# Altium footprint library resistencias_smd.PCBLIB: 183 footprints (part 6 of 12)
Each footprint in its own frame and in the unit in brackets; x right, y up, seen from the top. Pads: shape width x height; smd on the part's side, far side on the other; paste and mask are expansions set on the pad; w line width, h text height; cw(c..) or ccw(c..) is an arc to the next point about the centre after c.
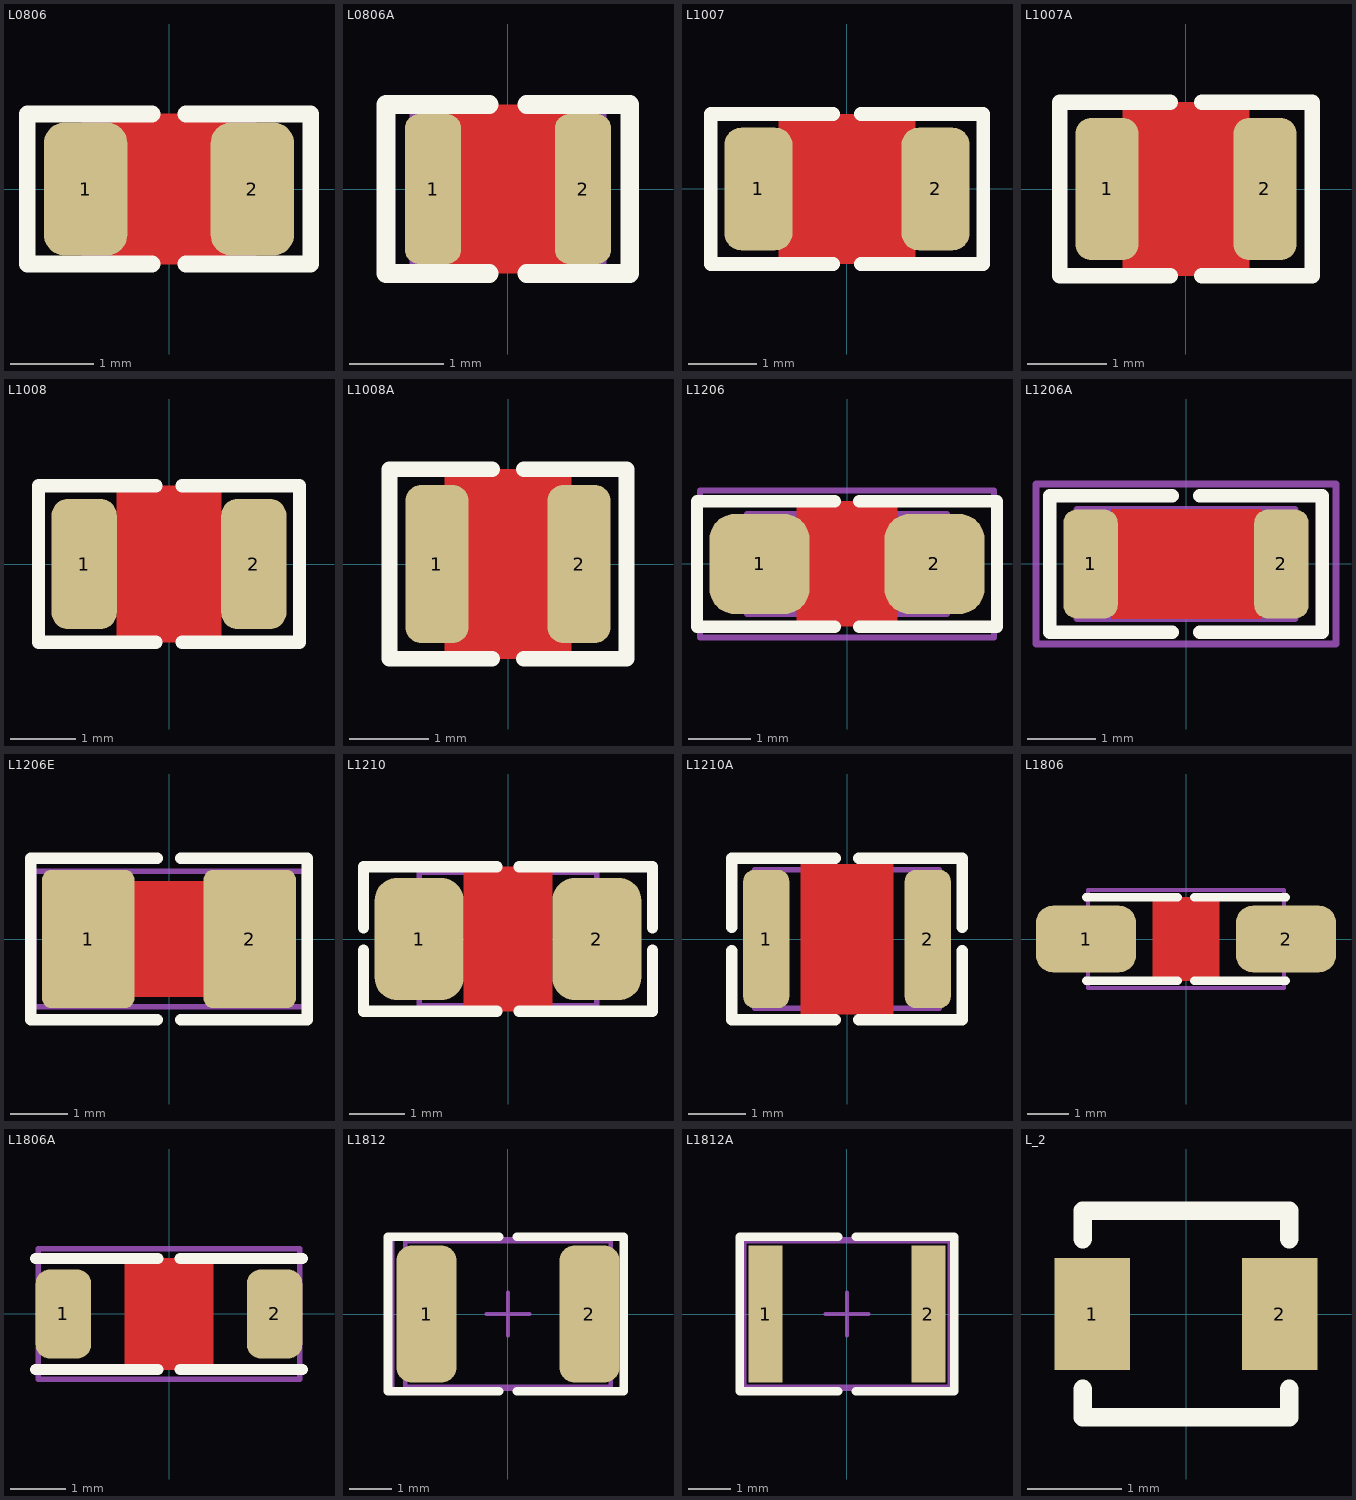
[diagram p5: the footprints below, top view; thin cyan lines are the x and y axes]

## L0806 [mm] "INDUCTOR, 2016, 0806, 2.0X1.6mm"
height 1
pads (2):
  rrect50% 1x1.6 smd mask+0.075: 1(-1,0) 2(1,0)
Top Layer:
  pour cut-out: -0.7,0.9 0.7,0.9 0.7,-0.9 -0.7,-0.9
Top Overlay:
  lines w0.2: -0.2,-0.9 -1.7,-0.9 -1.7,0.9 -0.2,0.9 ; 0.2,-0.9 1.7,-0.9 1.7,0.9 0.2,0.9
Mechanical 13:
  lines w0.1: -1,-0.8 1,-0.8 1,0.8 -1,0.8 -1,-0.8
3D body: height 0.1, standoff 0, extent 0.5,-0.8 1,0.8
3D body: height 1, standoff 0, extent 0.6,-0.8 1,0.8
3D body: height 1, standoff 0, extent -1,-0.8 -0.6,0.8
3D body: height 1, standoff 0.1, extent -0.6,-0.8 0.6,0.8
3D body: height 0.1, standoff 0, extent -1,-0.8 -0.5,0.8

## L0806A [mm] "INDUCTOR, 2016, 0806, 2.0X1.6mm"
height 1
pads (2):
  rrect50% 0.6x1.6 smd mask+0.075: 1(-0.8,0) 2(0.8,0)
Top Layer:
  pour cut-out: -0.7,0.9 0.7,0.9 0.7,-0.9 -0.7,-0.9
Top Overlay:
  lines w0.2: -0.2,-0.9 -1.3,-0.9 -1.3,0.9 -0.2,0.9 ; 0.2,-0.9 1.3,-0.9 1.3,0.9 0.2,0.9
Mechanical 13:
  lines w0.1: -1,-0.8 1,-0.8 1,0.8 -1,0.8 -1,-0.8
3D body: height 0.1, standoff 0, extent 0.5,-0.8 1,0.8
3D body: height 1, standoff 0, extent 0.6,-0.8 1,0.8
3D body: height 1, standoff 0, extent -1,-0.8 -0.6,0.8
3D body: height 1, standoff 0.1, extent -0.6,-0.8 0.6,0.8
3D body: height 0.1, standoff 0, extent -1,-0.8 -0.5,0.8

## L1007 [mm] "INDUCTOR, 2518 [1007], 2.5X1.8mm"
height 1.8
pads (2):
  rrect50% 1x1.8 smd mask+0.075: 1(-1.3,0) 2(1.3,0)
Top Layer:
  pour cut-out: -1,1.1 -1,-1.1 1,-1.1 1,1.1
Top Overlay:
  lines w0.2: -0.2,-1.1 -2,-1.1 -2,1.1 -0.2,1.1 ; 0.2,-1.1 2,-1.1 2,1.1 0.2,1.1
3D body: height 1.2, standoff 0, extent 1.2,-0.9 1.25,0.9
3D body: height 0.05, standoff 0, extent 0.65,-0.9 1.25,0.9
3D body: height 0.05, standoff 0, extent -1.25,-0.9 -0.65,0.9
3D body: height 1.2, standoff 0, extent -1.25,-0.9 -1.2,0.9
3D body: height 1.2, standoff 0.05, extent -1.2,-0.9 1.2,0.9

## L1007A [mm] "INDUCTOR, 2518 [1007], 2.5X1.8mm"
height 1.8
pads (2):
  rrect50% 0.8x1.8 smd mask+0.075: 1(-1,0) 2(1,0)
Top Layer:
  pour cut-out: -0.8,1.1 -0.8,-1.1 0.8,-1.1 0.8,1.1
Top Overlay:
  lines w0.2: -0.2,-1.1 -1.6,-1.1 -1.6,1.1 -0.2,1.1 ; 0.2,-1.1 1.6,-1.1 1.6,1.1 0.2,1.1
3D body: height 1.2, standoff 0.05, extent -1.2,-0.9 1.2,0.9
3D body: height 1.2, standoff 0, extent -1.25,-0.9 -1.2,0.9
3D body: height 0.05, standoff 0, extent -1.25,-0.9 -0.65,0.9
3D body: height 0.05, standoff 0, extent 0.65,-0.9 1.25,0.9
3D body: height 1.2, standoff 0, extent 1.2,-0.9 1.25,0.9

## L1008 [mm] "INDUCTOR, 2520 1008, 2.5X2.0mm"
pads (2):
  rrect50% 1x2 smd: 1(-1.3,0) 2(1.3,0)
Top Layer:
  pour cut-out: -0.8,1.2 -0.8,-1.2 0.8,-1.2 0.8,1.2
Top Overlay:
  lines w0.2: -0.2,-1.2 -2,-1.2 -2,1.2 -0.2,1.2 ; 0.2,-1.2 2,-1.2 2,1.2 0.2,1.2
3D body: height 0.05, standoff 0, extent 0.65,-1 1.25,1
3D body: height 0.05, standoff 0, extent -1.25,-1 -0.65,1
3D body: height 1.2, standoff 0, extent 1.2,-1 1.25,1
3D body: height 1.2, standoff 0, extent -1.25,-1 -1.2,1
3D body: height 1.2, standoff 0.05, extent -1.2,-1 1.2,1

## L1008A [mm] "INDUCTOR, 2520 1008, 2.5X2.0mm, for PCBA"
pads (2):
  rrect50% 0.8x2 smd: 1(-0.9,0) 2(0.9,0)
Top Layer:
  pour cut-out: -0.8,1.2 -0.8,-1.2 0.8,-1.2 0.8,1.2
Top Overlay:
  lines w0.2: -0.2,-1.2 -1.5,-1.2 -1.5,1.2 -0.2,1.2 ; 0.2,-1.2 1.5,-1.2 1.5,1.2 0.2,1.2
3D body: height 1.2, standoff 0.05, extent -1.2,-1 1.2,1
3D body: height 1.2, standoff 0, extent -1.25,-1 -1.2,1
3D body: height 1.2, standoff 0, extent 1.2,-1 1.25,1
3D body: height 0.05, standoff 0, extent -1.25,-1 -0.65,1
3D body: height 0.05, standoff 0, extent 0.65,-1 1.25,1

## L1206 [mm] "INDUCTOR, FERRITE BEAD, 1206, 3.2X1.6mm"
height 2
pads (2):
  rrect50% 1.6x1.6 smd mask+0.075: 1(-1.4,0) 2(1.4,0)
Top Layer:
  pour cut-out: -0.8,1 -0.8,-1 0.8,-1 0.8,1
Top Overlay:
  lines w0.2: -2.4,-1 -0.2,-1 ; -2.4,-1 -2.4,1 -0.2,1 ; 0.2,-1 2.4,-1 ; 0.2,1 2.4,1 2.4,-1
Mechanical 13:
  lines w0.1: -1.6,-0.8 1.6,-0.8 1.6,0.8 -1.6,0.8 -1.6,-0.8
Mechanical 15:
  lines w0.1: -0.5,0 0.5,0 ; 0,-0.5 0,0.5 ; -2.35,-1.175 2.35,-1.175 2.35,1.175 -2.35,1.175 -2.35,-1.175
3D body "User Library-ind_1206.step": height 1.1, standoff 0, extent -1.6,-0.8 1.6,0.8

## L1206A [mm] "INDUCTOR, FERRITE BEAD, 1206, for PCBA"
height 2
pads (2):
  rrect50% 0.8x1.6 smd mask+0.075: 1(-1.4,0) 2(1.4,0)
Top Layer:
  pour cut-out: -1.1,0.8 -1.1,-0.8 1.1,-0.8 1.1,0.8
Top Overlay:
  lines w0.2: -0.2,-1 -2,-1 -2,1 -0.2,1 ; 0.2,-1 2,-1 2,1 0.2,1
Mechanical 13:
  lines w0.1: -1.6,-0.8 -1.6,0.8 1.6,0.8 1.6,-0.8 -1.6,-0.8
Mechanical 15:
  lines w0.1: -0.5,0 0.5,0 ; 0,-0.5 0,0.5 ; -2.2,-1.175 2.2,-1.175 2.2,1.175 -2.2,1.175 -2.2,-1.175
3D body "User Library-ind_1206.step": height 1.1, standoff 0, extent -1.6,-0.8 1.6,0.8

## L1206E [mm] "INDUCTOR, FERRITE BEAD, 1206, EXPANDED PAD"
height 2
pads (2):
  rrect20% 1.6x2.4 smd mask+0.075: 1(-1.4,0) 2(1.4,0)
Top Layer:
  pour cut-out: -0.8,1 -0.8,-1 0.8,-1 0.8,1
Top Overlay:
  lines w0.2: -0.2,-1.4 -2.4,-1.4 -2.4,1.4 -0.2,1.4 ; 0.2,-1.4 2.4,-1.4 2.4,1.4 0.2,1.4
Mechanical 13:
  lines w0.1: -1.6,-0.8 1.6,-0.8 1.6,0.8 -1.6,0.8 -1.6,-0.8
Mechanical 15:
  lines w0.1: -0.5,0 0.5,0 ; 0,-0.5 0,0.5 ; -2.35,-1.175 2.35,-1.175 2.35,1.175 -2.35,1.175 -2.35,-1.175
3D body "User Library-ind_1206.step": height 1.1, standoff 0, extent -1.6,-0.8 1.6,0.8

## L1210 [mm] "INDUCTOR, FERRITE BEAD, 1210, 3.2X2.5mm"
pads (2):
  rrect50% 1.6x2.2 smd mask+0.075: 1(-1.6,0) 2(1.6,0)
Top Layer:
  pour cut-out: -0.8,1.3 -0.8,-1.3 0.8,-1.3 0.8,1.3
Top Overlay:
  lines w0.2: -2.6,-0.2 -2.6,-1.3 -0.2,-1.3 ; -2.6,0.2 -2.6,1.3 -0.2,1.3 ; 0.2,-1.3 2.6,-1.3 2.6,-0.2 ; 0.2,1.3 2.6,1.3 2.6,0.2
Mechanical 13:
  lines w0.1: -1.6,-1.2 -1.6,1.2 1.6,1.2 1.6,-1.2 -1.6,-1.2
3D body "User Library-Chip Inductor1210.step": height 1.35, standoff 0, extent -1.6,-1.25 1.6,1.25

## L1210A [mm] "INDUCTOR, FERRITE BEAD, 1210, for PCBA"
pads (2):
  rrect50% 0.8x2.4 smd mask+0.075: 1(-1.4,0) 2(1.4,0)
Top Layer:
  pour cut-out: -0.8,1.3 -0.8,-1.3 0.8,-1.3 0.8,1.3
Top Overlay:
  lines w0.2: -2,-0.2 -2,-1.4 -0.2,-1.4 ; -2,0.2 -2,1.4 -0.2,1.4 ; 0.2,-1.4 2,-1.4 2,-0.2 ; 0.2,1.4 2,1.4 2,0.2
Mechanical 13:
  lines w0.1: -1.6,-1.2 -1.6,1.2 1.6,1.2 1.6,-1.2 -1.6,-1.2
3D body "User Library-Chip Inductor1210.step": height 1.35, standoff 0, extent -1.6,-1.25 1.6,1.25

## L1806 [mm] "INDUCTOR, FERRITE BEAD, 1806, 4.5X1.6mm"
height 2
pads (2):
  rrect50% 2.4x1.6 smd mask+0.075: 1(-2.4,0) 2(2.4,0)
Top Layer:
  pour cut-out: -0.8,1 -0.8,-1 0.8,-1 0.8,1
Top Overlay:
  lines w0.2: -2.4,-1 -0.2,-1 ; -2.4,1 -0.2,1 ; 0.2,-1 2.4,-1 ; 0.2,1 2.4,1
Mechanical 15:
  lines w0.1: -0.5,0 0.5,0 ; 0,-0.5 0,0.5 ; -2.35,-1.175 -2.35,1.175 2.35,1.175 2.35,-1.175 -2.35,-1.175
3D body: height 1.6, standoff 0, extent -1.55,-0.8 1.55,0.8
3D body: height 1.6, standoff 0, extent -2.25,-0.8 -1.55,0.8
3D body: height 1.6, standoff 0, extent 1.55,-0.8 2.25,0.8

## L1806A [mm] "INDUCTOR, FERRITE BEAD, 1806, 4.5X1.6mm"
height 2
pads (2):
  rrect50% 1x1.6 smd mask+0.075: 1(-1.9,0) 2(1.9,0)
Top Layer:
  pour cut-out: -0.8,1 -0.8,-1 0.8,-1 0.8,1
Top Overlay:
  lines w0.2: -2.4,-1 -0.2,-1 ; -2.4,1 -0.2,1 ; 0.2,-1 2.4,-1 ; 0.2,1 2.4,1
Mechanical 15:
  lines w0.1: -0.5,0 0.5,0 ; 0,-0.5 0,0.5 ; -2.35,-1.175 -2.35,1.175 2.35,1.175 2.35,-1.175 -2.35,-1.175
3D body: height 1.6, standoff 0, extent -1.55,-0.8 1.55,0.8
3D body: height 1.6, standoff 0, extent -2.25,-0.8 -1.55,0.8
3D body: height 1.6, standoff 0, extent 1.55,-0.8 2.25,0.8

## L1812 [mm] "INDUCTOR, 1812, 4.5X3.2mm"
height 0.55
pads (2):
  rrect50% 1.4x3.2 smd: 1(-1.9,0) 2(1.9,0)
Top Overlay:
  lines w0.2: -0.2,-1.8 -2.8,-1.8 -2.8,1.8 -0.2,1.8 ; 0.2,-1.8 2.7,-1.8 2.7,1.8 0.2,1.8
Mechanical 13:
  lines w0.1: -2.4,-1.7 2.4,-1.7 2.4,1.7 -2.4,1.7 -2.4,-1.7
Mechanical 15:
  lines w0.1: -0.5,0 0.5,0 ; 0,-0.5 0,0.5 ; -2.7,-1.75 2.7,-1.75 2.7,1.75 -2.7,1.75 -2.7,-1.75
3D body "INDC4532X175N.STEP": height 1.75, standoff 0, extent -2.25,-1.6 2.25,1.6

## L1812A [mm] "INDUCTOR, 1812, 4.5X3.2mm, for PCBA"
height 0.55
pads (2):
  rect 0.8x3.2 smd: 1(-1.9,0) 2(1.9,0)
Top Overlay:
  lines w0.2: -0.2,-1.8 -2.5,-1.8 -2.5,1.8 -0.2,1.8 ; 0.2,-1.8 2.5,-1.8 2.5,1.8 0.2,1.8
Mechanical 13:
  lines w0.1: -2.4,-1.7 -2.4,1.7 2.4,1.7 2.4,-1.7 -2.4,-1.7
Mechanical 15:
  lines w0.1: -0.5,0 0.5,0 ; 0,-0.5 0,0.5 ; -2.5,-1.75 -2.5,1.75 2.5,1.75 2.5,-1.75 -2.5,-1.75
3D body "INDC4532X175N.STEP": height 1.75, standoff 0, extent -2.25,-1.6 2.25,1.6

## L_2 [mm] "INDUCTOR, 2.0X2.0mm"
pads (2):
  rect 0.8x1.2 smd: 1(-1,0) 2(1,0)
Top Overlay:
  lines w0.2: -1.1,-0.8 -1.1,-1.1 1.1,-1.1 1.1,-0.8 ; -1.1,0.8 -1.1,1.1 1.1,1.1 1.1,0.8
3D body: height 2, standoff 0, extent -1,-1 1,1